# Altium footprint library TP R35 TH15.PcbLib: 1 footprints
Each footprint in its own frame and in the unit in brackets; x right, y up, seen from the top. Pads: shape width x height; smd on the part's side, far side on the other; paste and mask are expansions set on the pad; w line width, h text height; cw(c..) or ccw(c..) is an arc to the next point about the centre after c.
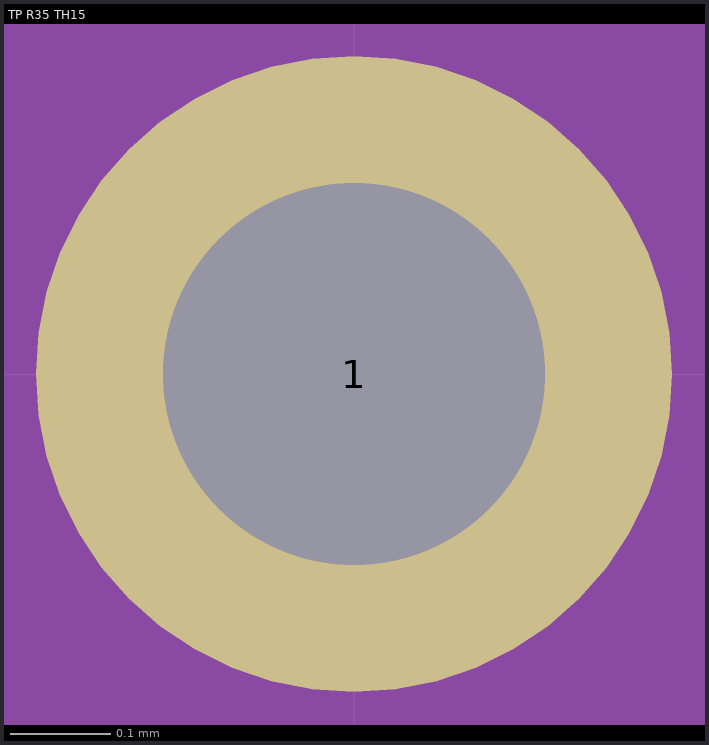
[diagram p0: the footprint, top view; thin cyan lines are the x and y axes]

## TP R35 TH15 [mil] "Testpoint, Round, 35 mil pad, 15 mil TH"
height 0
pads (1):
  round 25 / inner round 25 / far side round 35 hole 15 mask+3: 1(0,0)
Mechanical 5:
  circle w20: c0,0 r10
3D body: height 0, standoff 0, extent -17.57,-17.49 17.43,17.5